# Altium footprint library Footprint.PcbLib: 97 footprints (part 5 of 7)
Each footprint in its own frame and in the unit in brackets; x right, y up, seen from the top. Pads: shape width x height; smd on the part's side, far side on the other; paste and mask are expansions set on the pad; w line width, h text height; cw(c..) or ccw(c..) is an arc to the next point about the centre after c.
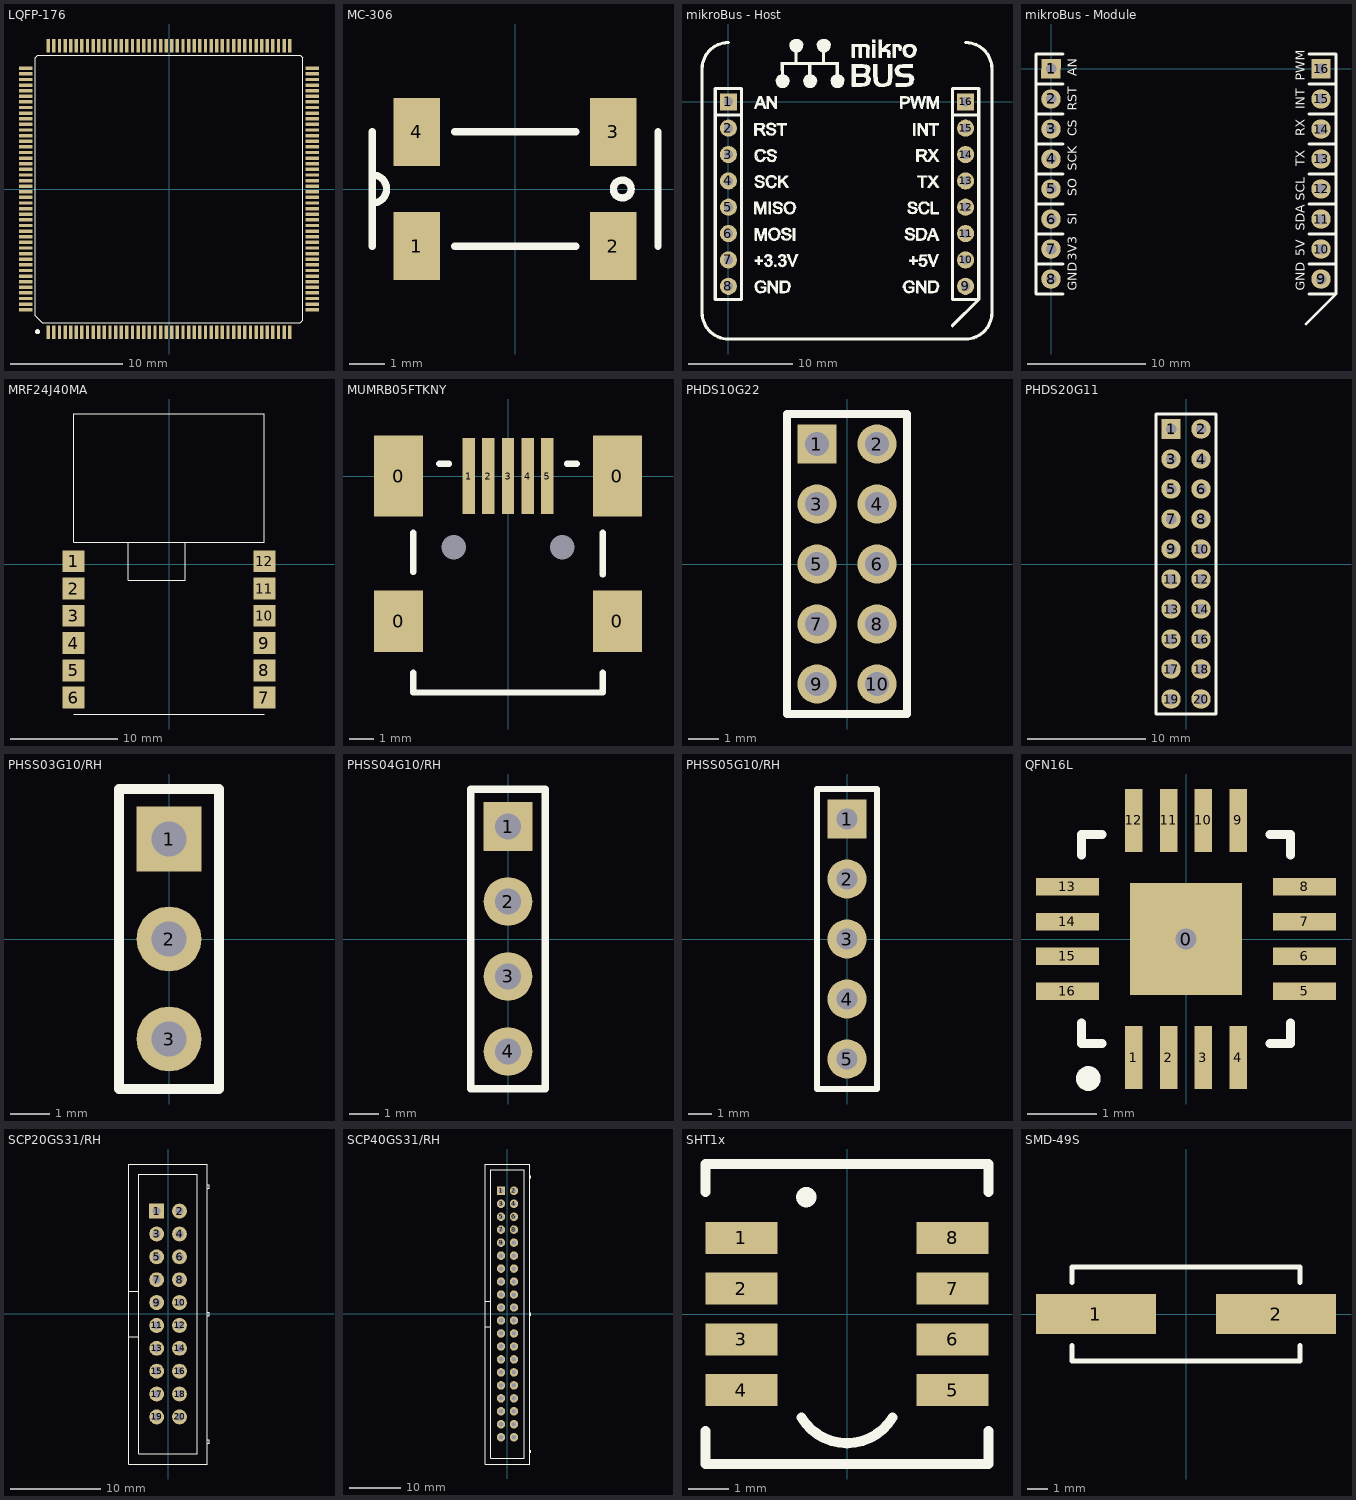
[diagram p4: the footprints below, top view; thin cyan lines are the x and y axes]

## LQFP-176 [mm]
pads (176):
  rect 0.3x1.2 smd: 1(-10.75,-12.75) 2(-10.25,-12.75) 3(-9.75,-12.75) 4(-9.25,-12.75) 5(-8.75,-12.75) 6(-8.25,-12.75) 7(-7.75,-12.75) 8(-7.25,-12.75) 9(-6.75,-12.75) 10(-6.25,-12.75) 11(-5.75,-12.75) 12(-5.25,-12.75) 13(-4.75,-12.75) 14(-4.25,-12.75) 15(-3.75,-12.75) 16(-3.25,-12.75) 17(-2.75,-12.75) 18(-2.25,-12.75) 19(-1.75,-12.75) 20(-1.25,-12.75) 21(-0.75,-12.75) 22(-0.25,-12.75) 23(0.25,-12.75) 24(0.75,-12.75) 25(1.25,-12.75) 26(1.75,-12.75) 27(2.25,-12.75) 28(2.75,-12.75) 29(3.25,-12.75) 30(3.75,-12.75) 31(4.25,-12.75) 32(4.75,-12.75) 33(5.25,-12.75) 34(5.75,-12.75) 35(6.25,-12.75) 36(6.75,-12.75) 37(7.25,-12.75) 38(7.75,-12.75) 39(8.25,-12.75) 40(8.75,-12.75) 41(9.25,-12.75) 42(9.75,-12.75) 43(10.25,-12.75) 44(10.75,-12.75) 89(10.75,12.75) 90(10.25,12.75) 91(9.75,12.75) 92(9.25,12.75) 93(8.75,12.75) 94(8.25,12.75) 95(7.75,12.75) 96(7.25,12.75) 97(6.75,12.75) 98(6.25,12.75) 99(5.75,12.75) 100(5.25,12.75) 101(4.75,12.75) 102(4.25,12.75) 103(3.75,12.75) 104(3.25,12.75) 105(2.75,12.75) 106(2.25,12.75) 107(1.75,12.75) 108(1.25,12.75) 109(0.75,12.75) 110(0.25,12.75) 111(-0.25,12.75) 112(-0.75,12.75) 113(-1.25,12.75) 114(-1.75,12.75) 115(-2.25,12.75) 116(-2.75,12.75) 117(-3.25,12.75) 118(-3.75,12.75) 119(-4.25,12.75) 120(-4.75,12.75) 121(-5.25,12.75) 122(-5.75,12.75) 123(-6.25,12.75) 124(-6.75,12.75) 125(-7.25,12.75) 126(-7.75,12.75) 127(-8.25,12.75) 128(-8.75,12.75) 129(-9.25,12.75) 130(-9.75,12.75) 131(-10.25,12.75) 132(-10.75,12.75)
  rect 1.2x0.3 smd: 45(12.75,-10.75) 46(12.75,-10.25) 47(12.75,-9.75) 48(12.75,-9.25) 49(12.75,-8.75) 50(12.75,-8.25) 51(12.75,-7.75) 52(12.75,-7.25) 53(12.75,-6.75) 54(12.75,-6.25) 55(12.75,-5.75) 56(12.75,-5.25) 57(12.75,-4.75) 58(12.75,-4.25) 59(12.75,-3.75) 60(12.75,-3.25) 61(12.75,-2.75) 62(12.75,-2.25) 63(12.75,-1.75) 64(12.75,-1.25) 65(12.75,-0.75) 66(12.75,-0.25) 67(12.75,0.25) 68(12.75,0.75) 69(12.75,1.25) 70(12.75,1.75) 71(12.75,2.25) 72(12.75,2.75) 73(12.75,3.25) 74(12.75,3.75) 75(12.75,4.25) 76(12.75,4.75) 77(12.75,5.25) 78(12.75,5.75) 79(12.75,6.25) 80(12.75,6.75) 81(12.75,7.25) 82(12.75,7.75) 83(12.75,8.25) 84(12.75,8.75) 85(12.75,9.25) 86(12.75,9.75) 87(12.75,10.25) 88(12.75,10.75) 133(-12.75,10.75) 134(-12.75,10.25) 135(-12.75,9.75) 136(-12.75,9.25) 137(-12.75,8.75) 138(-12.75,8.25) 139(-12.75,7.75) 140(-12.75,7.25) 141(-12.75,6.75) 142(-12.75,6.25) 143(-12.75,5.75) 144(-12.75,5.25) 145(-12.75,4.75) 146(-12.75,4.25) 147(-12.75,3.75) 148(-12.75,3.25) 149(-12.75,2.75) 150(-12.75,2.25) 151(-12.75,1.75) 152(-12.75,1.25) 153(-12.75,0.75) 154(-12.75,0.25) 155(-12.75,-0.25) 156(-12.75,-0.75) 157(-12.75,-1.25) 158(-12.75,-1.75) 159(-12.75,-2.25) 160(-12.75,-2.75) 161(-12.75,-3.25) 162(-12.75,-3.75) 163(-12.75,-4.25) 164(-12.75,-4.75) 165(-12.75,-5.25) 166(-12.75,-5.75) 167(-12.75,-6.25) 168(-12.75,-6.75) 169(-12.75,-7.25) 170(-12.75,-7.75) 171(-12.75,-8.25) 172(-12.75,-8.75) 173(-12.75,-9.25) 174(-12.75,-9.75) 175(-12.75,-10.25) 176(-12.75,-10.75)
Top Overlay:
  circle w0.254: c-11.7,-12.7 r0.1
  lines w0.1: -11.9,-11.3 -11.9,11.7 -11.7,11.9 11.7,11.9 11.9,11.7 11.9,-11.7 11.7,-11.9 -11.3,-11.9 -11.9,-11.3

## MC-306 [mm]
pads (4):
  rect 1.3x1.9 smd: 1(-2.75,-1.6) 2(2.75,-1.6) 3(2.75,1.6) 4(-2.75,1.6)
Top Overlay:
  circle w0.203: c3,0 r0.25
  lines w0.203: -4,-1.6 -4,1.6 ; -4,-0.4 ccw(c-4,0) -4,0.4 ; -1.7,-1.6 1.7,-1.6 ; -1.7,1.6 1.7,1.6 ; 4,-1.6 4,1.6

## mikroBus - Host [mil]
pads (16):
  rect 65x65 hole 35: 1(0,0) 16(900,0)
  round 65 hole 35: 2(0,-100) 3(0,-200) 4(0,-300) 5(0,-400) 6(0,-500) 7(0,-600) 8(0,-700) 9(900,-700) 10(900,-600) 11(900,-500) 12(900,-400) 13(900,-300) 14(900,-200) 15(900,-100)
Top Overlay:
  drawing of 3941 lines, arcs and shapes, not listed
Bottom Overlay:
  drawing of 3932 lines, arcs and shapes, not listed

## mikroBus - Module [mil]
pads (16):
  rect 65x65 hole 35: 1(0,0) 16(900,0)
  round 65 hole 35: 2(0,-100) 3(0,-200) 4(0,-300) 5(0,-400) 6(0,-500) 7(0,-600) 8(0,-700) 9(900,-700) 10(900,-600) 11(900,-500) 12(900,-400) 13(900,-300) 14(900,-200) 15(900,-100)
Top Overlay:
  lines w10: -50,-650 40,-650 ; -50,-550 40,-550 ; -50,-450 40,-450 ; -50,-350 40,-350 ; -50,-250 40,-250 ; -50,-150 40,-150 ; -50,-50 40,-50 ; 40,-750 -50,-750 -50,50 40,50 ; 850,-850 950,-750 ; 860,-750 950,-750 ; 860,-650 950,-650 ; 860,-550 950,-550 ; 860,-450 950,-450 ; 860,-350 950,-350 ; 860,-250 950,-250 ; 860,-150 950,-150 ; 860,-50 950,-50 ; 860,50 950,50 950,-750
  text "PWM" at 845,-40 h30
  text "INT" at 845,-135 h30
  text "RX" at 845,-225 h30
  text "TX" at 845,-325 h30
  text "SCL" at 845,-440 h30
  text "SDA" at 845,-540 h30
  text "5V" at 845,-625 h30
  text "GND" at 845,-740 h30
  text "AN" at 85,-25 h30
  text "RST" at 85,-140 h30
  text "CS" at 85,-225 h30
  text "SCK" at 85,-340 h30
  text "SO" at 85,-425 h30
  text "SI" at 85,-520 h30
  text "3V3" at 85,-640 h30
  text "GND" at 85,-740 h30
Bottom Overlay:
  drawing of 2653 lines, arcs and shapes, not listed

## MRF24J40MA [mil]
pads (12):
  rect 80x80 smd: 1(-350,10) 2(-350,-90) 3(-350,-190) 4(-350,-290) 5(-350,-390) 6(-350,-490) 7(350,-490) 8(350,-390) 9(350,-290) 10(350,-190) 11(350,-90) 12(350,10)
Top Overlay:
  lines w3.94: -350,-550 350,-550 ; -150,80 -150,-60 60,-60 60,80 ; -350,80 -350,550 350,550 350,80 -350,80

## MUMRB05FTKNY [mm]
pads (11):
  rect 2x2.5 smd: 0(-4.45,-5.9) 0(4.45,-5.9)
  rect 2x3.3 smd: 0(-4.45,0) 0(4.45,0)
  rect 0.5x3.1 smd: 1(-1.6,0) 2(-0.8,0) 3(0,0) 4(0.8,0) 5(1.6,0)
  round 0 hole 1: 6(-2.2,-2.9) 6(2.2,-2.9)
Top Overlay:
  lines w0.254: -3.85,-8 -3.85,-8.8 3.85,-8.8 3.85,-8 ; -3.85,-3.9 -3.85,-2.3 ; -2.8,0.5 -2.4,0.5 ; 2.4,0.5 2.8,0.5 ; 3.85,-4 3.85,-2.3

## PHDS10G22 [mm]
pads (10):
  rect 1.3x1.3 hole 0.8: 1(-1,4)
  round 1.3 hole 0.8: 2(1,4) 3(-1,2) 4(1,2) 5(-1,0) 6(1,0) 7(-1,-2) 8(1,-2) 9(-1,-4) 10(1,-4)
Top Overlay:
  lines w0.254: -2,-5 2,-5 2,5 -2,5 -2,-5
3D body: height 2, standoff 0.25, extent -2,-5 2,-3
3D body: height 2, standoff 0.25, extent -2,-3 2,-1
3D body: height 2, standoff 0.25, extent -2,-1 2,1
3D body: height 2, standoff 0.25, extent -2,1 2,3
3D body: height 2, standoff 0.25, extent -2,3 2,5
3D body: height 0.25, standoff 0, extent 1.5,3 2,5
3D body: height 0.25, standoff 0, extent 1.5,1 2,3
3D body: height 0.25, standoff 0, extent 1.5,-1 2,1
3D body: height 0.25, standoff 0, extent 1.5,-3 2,-1
3D body: height 0.25, standoff 0, extent 1.5,-5 2,-3
3D body: height 0.25, standoff 0, extent -2,-5 -1.5,-3
3D body: height 0.25, standoff 0, extent -2,-3 -1.5,-1
3D body: height 0.25, standoff 0, extent -2,-1 -1.5,1
3D body: height 0.25, standoff 0, extent -2,1 -1.5,3
3D body: height 0.25, standoff 0, extent -2,3 -1.5,5
3D body: height 0.25, standoff 0, extent 0,-5 0.5,5
3D body: height 6, standoff -2.8, extent 0.75,-4.24 1.25,-3.74
3D body: height 6, standoff -2.8, extent -1.25,-4.24 -0.75,-3.74
3D body: height 6, standoff -2.8, extent 0.75,-2.24 1.25,-1.74
3D body: height 6, standoff -2.8, extent -1.25,-2.24 -0.75,-1.74
3D body: height 6, standoff -2.8, extent 0.75,-0.24 1.25,0.26
3D body: height 6, standoff -2.8, extent -1.25,-0.24 -0.75,0.26
3D body: height 6, standoff -2.8, extent -1.25,3.76 -0.75,4.26
3D body: height 6, standoff -2.8, extent -1.25,1.76 -0.75,2.26
3D body: height 0.25, standoff 0, extent -0.5,-5 0,5
3D body: height 6, standoff -2.8, extent 0.75,1.76 1.25,2.26
3D body: height 6, standoff -2.8, extent 0.75,3.76 1.25,4.26

## PHDS20G11 [mil]
pads (20):
  rect 65x65 hole 35: 1(-50,450)
  round 65 hole 35: 2(50,450) 3(-50,350) 4(50,350) 5(-50,250) 6(50,250) 7(-50,150) 8(50,150) 9(-50,50) 10(50,50) 11(-50,-50) 12(50,-50) 13(-50,-150) 14(50,-150) 15(-50,-250) 16(50,-250) 17(-50,-350) 18(50,-350) 19(-50,-450) 20(50,-450)
Top Overlay:
  lines w10: -100,-500 -100,500 100,500 100,-500 -100,-500

## PHSS03G10/RH [mil]
pads (3):
  rect 65x65 hole 35: 1(0,100)
  round 65 hole 35: 2(0,0) 3(0,-100)
Top Overlay:
  lines w10: -50,-150 -50,150 50,150 50,-150 -50,-150

## PHSS04G10/RH [mil]
pads (4):
  rect 65x65 hole 35: 1(0,150)
  round 65 hole 35: 2(0,50) 3(0,-50) 4(0,-150)
Top Overlay:
  lines w10: -50,-200 -50,200 50,200 50,-200 -50,-200

## PHSS05G10/RH [mil]
pads (5):
  rect 65x65 hole 35: 1(0,200)
  round 65 hole 35: 2(0,100) 3(0,0) 4(0,-100) 5(0,-200)
Top Overlay:
  lines w10: -50,-250 -50,250 50,250 50,-250 -50,-250

## QFN16L [mm]
pads (17):
  rect 1.6x1.6 hole 0.3: 0(0,0)
  rect 0.25x0.9 smd: 1(-0.75,-1.7) 2(-0.25,-1.7) 3(0.25,-1.7) 4(0.75,-1.7) 9(0.75,1.7) 10(0.25,1.7) 11(-0.25,1.7) 12(-0.75,1.7)
  rect 0.9x0.25 smd: 5(1.7,-0.75) 6(1.7,-0.25) 7(1.7,0.25) 8(1.7,0.75) 13(-1.7,0.75) 14(-1.7,0.25) 15(-1.7,-0.25) 16(-1.7,-0.75)
Top Overlay:
  circle w0.254: c-1.4,-2 r0.05
  lines w0.127: -1.5,-1.2 -1.5,-1.5 -1.2,-1.5 ; -1.5,1.2 -1.5,1.5 -1.2,1.5 ; 1.2,-1.5 1.5,-1.5 1.5,-1.2 ; 1.2,1.5 1.5,1.5 1.5,1.2

## SCP20GS31/RH [mil]
pads (20):
  rect 65x65 hole 35: 1(-50,450)
  round 65 hole 35: 2(50,450) 3(-50,350) 4(50,350) 5(-50,250) 6(50,250) 7(-50,150) 8(50,150) 9(-50,50) 10(50,50) 11(-50,-50) 12(50,-50) 13(-50,-150) 14(50,-150) 15(-50,-250) 16(50,-250) 17(-50,-350) 18(50,-350) 19(-50,-450) 20(50,-450)
Top Overlay:
  lines w5: -172.24,-100 -127.95,-100 ; -172.24,100 -127.95,100 ; 172.24,-565.75 180.12,-565.75 180.12,-550 172.24,-550 ; 172.24,-7.87 180.12,-7.87 180.12,7.87 172.24,7.87 ; 172.24,550 180.12,550 180.12,565.75 172.24,565.75 ; -172.24,-655.91 172.24,-655.91 172.24,655.91 -172.24,655.91 -172.24,-655.91 ; -127.95,-610.63 127.95,-610.63 127.95,610.63 -127.95,610.63 -127.95,-400 -127.95,-600 -127.95,-610.63

## SCP40GS31/RH [mil]
pads (40):
  rect 65x65 hole 35: 1(-50,950)
  round 65 hole 35: 2(50,950) 3(-50,850) 4(50,850) 5(-50,750) 6(50,750) 7(-50,650) 8(50,650) 9(-50,550) 10(50,550) 11(-50,450) 12(50,450) 13(-50,350) 14(50,350) 15(-50,250) 16(50,250) 17(-50,150) 18(50,150) 19(-50,50) 20(50,50) 21(-50,-50) 22(50,-50) 23(-50,-150) 24(50,-150) 25(-50,-250) 26(50,-250) 27(-50,-350) 28(50,-350) 29(-50,-450) 30(50,-450) 31(-50,-550) 32(50,-550) 33(-50,-650) 34(50,-650) 35(-50,-750) 36(50,-750) 37(-50,-850) 38(50,-850) 39(-50,-950) 40(50,-950)
Top Overlay:
  lines w5: -172.24,-100 -127.95,-100 ; -172.24,100 -127.95,100 ; 172.24,-1065.75 180.12,-1065.75 180.12,-1050 172.24,-1050 ; 172.24,-7.87 180.12,-7.87 180.12,7.87 172.24,7.87 ; 172.24,1050 180.12,1050 180.12,1065.75 172.24,1065.75 ; -127.95,-100 -127.95,-1110.63 127.95,-1110.63 127.95,1110.63 -127.95,1110.63 -127.95,100 ; -127.95,-100 -127.95,100 ; -172.24,-1155.91 -172.24,1155.91 172.24,1155.91 172.24,-1155.91 -172.24,-1155.91

## SHT1x [mm]
pads (8):
  rect 1.8x0.8 smd: 1(-2.64,1.905) 2(-2.64,0.635) 3(-2.64,-0.635) 4(-2.64,-1.905) 5(2.64,-1.905) 6(2.64,-0.635) 7(2.64,0.635) 8(2.64,1.905)
Top Overlay:
  circle w0.254: c-1.016,2.921 r0.127
  lines w0.254: -3.54,-2.921 -3.54,-3.75 3.54,-3.75 3.54,-2.921 ; -3.54,3.048 -3.54,3.75 3.54,3.75 3.54,3.048 ; -1.137,-2.587 ccw(c0,-1.905) 1.137,-2.587

## SMD-49S [mm]
pads (2):
  rect 6x2 smd: 1(-4.5,0) 2(4.5,0)
Top Overlay:
  lines w0.254: -5.7,-1.581 -5.7,-2.35 5.7,-2.35 5.7,-1.581 ; -5.7,1.581 -5.7,2.35 5.7,2.35 5.7,1.581
3D body: height 1, standoff 0, extent -5.7,-2.36 5.7,2.34
3D body: height 4.2, standoff 1, extent -5,-1.75 -1.514,1.743
3D body: height 4.2, standoff 1, extent 1.514,-1.743 5,1.75
3D body: height 4.2, standoff 1, extent -3.257,-1.75 3.257,1.75